# EAGLE library part SERVOCONNECTOR_X8 (library con-special_purpose)
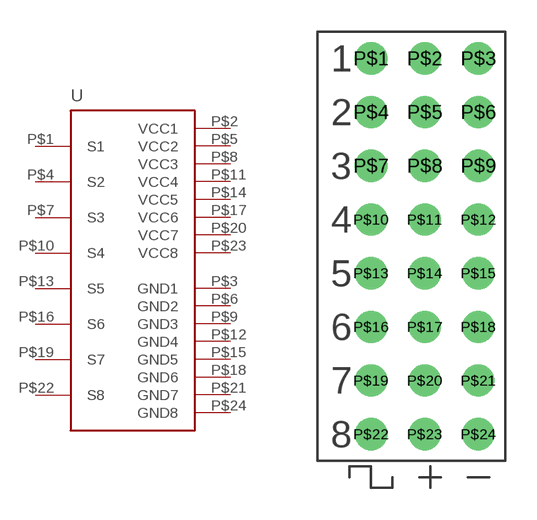
[diagram p0: symbol with the pads of HEADER3X8; footprint HEADER3X8]

Designator prefix -

## SERVOCONNECTOR_X8STANDARD (PLACE_PART: YES)  [HEADER3X8]
P$1  S1
P$2  VCC1
P$3  GND1
P$4  S2
P$5  VCC2
P$6  GND2
P$7  S3
P$8  VCC3
P$9  GND3
P$10  S4
P$11  VCC4
P$12  GND4
P$13  S5
P$14  VCC5
P$15  GND5
P$16  S6
P$17  VCC6
P$18  GND6
P$19  S7
P$20  VCC7
P$21  GND7
P$22  S8
P$23  VCC8
P$24  GND8

## Footprint HEADER3X8 (pad centres in mm)
drill 1.016: P$1 -2.54,10.16; P$2 0,10.16; P$3 2.54,10.16; P$4 -2.54,7.62; P$5 0,7.62; P$6 2.54,7.62; P$7 -2.54,5.08; P$8 0,5.08; P$9 2.54,5.08; P$10 -2.54,2.54; P$11 0,2.54; P$12 2.54,2.54; P$13 -2.54,0; P$14 0,0; P$15 2.54,0; P$16 -2.54,-2.54; P$17 0,-2.54; P$18 2.54,-2.54; P$19 -2.54,-5.08; P$20 0,-5.08; P$21 2.54,-5.08; P$22 -2.54,-7.62; P$23 0,-7.62; P$24 2.54,-7.62